# EAGLE library part M-05825_AE-FXMA2102 (library Akizuki)
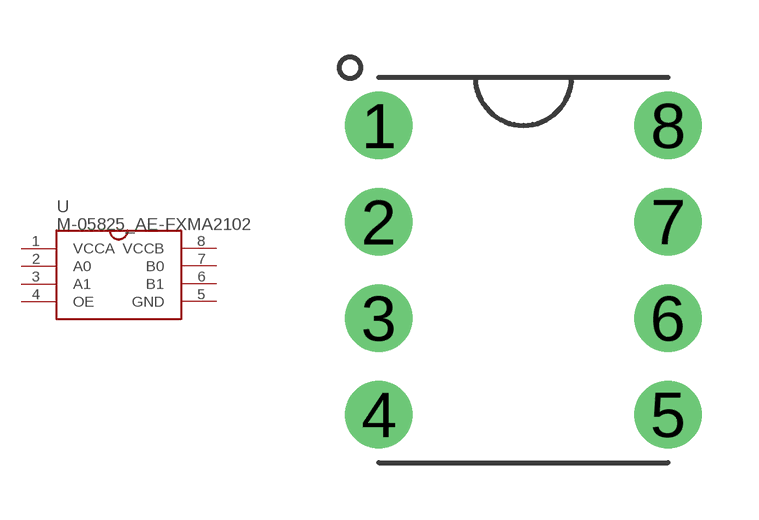
[diagram p32: symbol with the pads of AE-FXMA2102; footprint AE-FXMA2102]

Designator prefix U

## M-05825_AE-FXMA2102  [AE-FXMA2102]
1  VCCA
2  A0
3  A1
4  OE
5  GND
6  B1
7  B0
8  VCCB

## Footprint AE-FXMA2102 (pad centres in mm)
drill 0.8 pad 1.778: 1 0,7.62; 2 0,5.08; 3 0,2.54; 4 0,0; 5 7.62,0; 6 7.62,2.54; 7 7.62,5.08; 8 7.62,7.62